# Altium footprint library USBA-1J.PcbLib: 1 footprints
Each footprint in its own frame and in the unit in brackets; x right, y up, seen from the top. Pads: shape width x height; smd on the part's side, far side on the other; paste and mask are expansions set on the pad; w line width, h text height; cw(c..) or ccw(c..) is an arc to the next point about the centre after c.
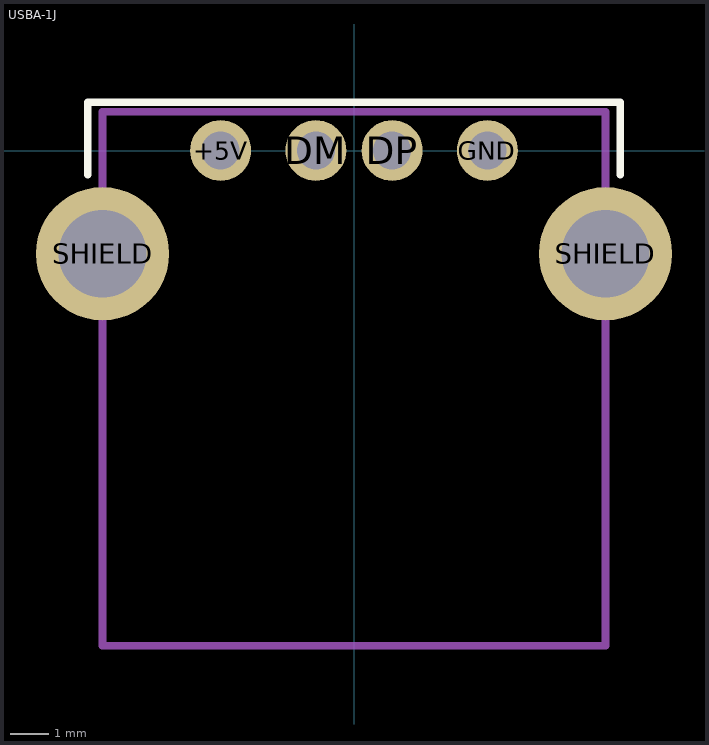
[diagram p0: the footprint, top view; thin cyan lines are the x and y axes]

## USBA-1J [mm]
pads (6):
  round 1.6 hole 1 paste-3: +5V(-3.5,0) DM(-1,0) DP(1,0) GND(3.5,0)
  round 3.5 hole 2.3: SHIELD(-6.6,-2.71) SHIELD(6.6,-2.71)
Top Overlay:
  lines w0.2: -6.985,-0.635 -6.985,1.27 6.985,1.27 6.985,-0.635
Mechanical 13:
  lines w0.2: -6.6,-13 -6.6,1.016 6.6,1.016 6.6,-13 0,-13 -6.6,-13
  text ".Designator" at -2.921,-2.54 h1.5
3D body: height 7.45, standoff -3.47, extent -7.9,-13.084 7.9,1.016